# Altium schematic symbol library 2x23_header.SchLib: 1 symbol
Pins are listed as number, name and electrical type; pins without a type are passive.

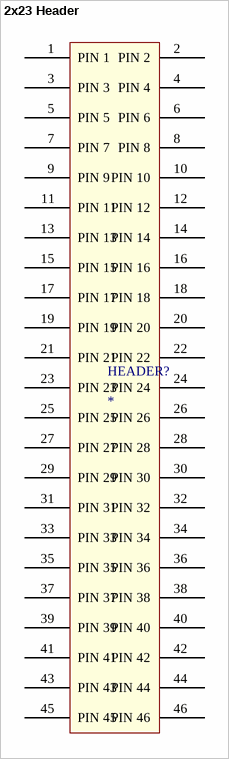
[diagram p0: symbol 2x23 Header]

## 2x23 Header
designator HEADER?
2x23 Header
footprint 2x23 Header
pins: 1 PIN 1, 2 PIN 2, 3 PIN 3, 4 PIN 4, 5 PIN 5, 6 PIN 6, 7 PIN 7, 8 PIN 8, 9 PIN 9, 10 PIN 10, 11 PIN 11, 12 PIN 12, 13 PIN 13, 14 PIN 14, 15 PIN 15, 16 PIN 16, 17 PIN 17, 18 PIN 18, 19 PIN 19, 20 PIN 20, 21 PIN 21, 22 PIN 22, 23 PIN 23, 24 PIN 24, 25 PIN 25, 26 PIN 26, 27 PIN 27, 28 PIN 28, 29 PIN 29, 30 PIN 30, 31 PIN 31, 32 PIN 32, 33 PIN 33, 34 PIN 34, 35 PIN 35, 36 PIN 36, 37 PIN 37, 38 PIN 38, 39 PIN 39, 40 PIN 40, 41 PIN 41, 42 PIN 42, 43 PIN 43, 44 PIN 44, 45 PIN 45, 46 PIN 46